# EAGLE library part 1734753-1 (library jason2)
Conn Mini USB 2.0 Type B RCP 5 POS 0.8mm Solder ST Thru-Hole 5 Terminal 1 Port Tray Check availability <https://pricing.snapeda.com/parts/1734753-1/TE%20Connectivity/view-part?ref=eda>
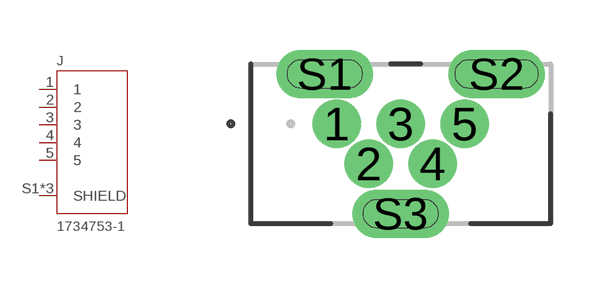
[diagram p0: symbol with the pads of CONN_1734753-1; footprint CONN_1734753-1]

Designator prefix J

## 1734753-1 (AVAILABILITY: In Stock; COMMENT: 1734753-1; DESCRIPTION: Conn Mini USB 2.0 Type B RCP 5 POS 0.8mm Solder ST Thru-Hole 5 Terminal 1 Port Box/Tray; EU_ROHS_COMPLIANCE: Compliant; MF: TE Connectivity; MP: 1734753-1; PACKAGE: None; PRICE: None; PURCHASE-URL: https://pricing.snapeda.com/search/part/1734753-1/?ref=eda)  [CONN_1734753-1]
1  1  pas
2  2  pas
3  3  pas
4  4  pas
5  5  pas
S1  SHIELD  pas
S2  SHIELD  pas
S3  SHIELD  pas

## Footprint CONN_1734753-1 (pad centres in mm)
drill 0.7 pad 1: 1 -1.6,0.5; 2 -0.8,-0.5; 3 0,0.5; 4 0.8,-0.5; 5 1.6,0.5
drill 0.7 pad 1.05 long: S1 -1.9,1.75; S2 2.4,1.75; S3 0,-1.75